# Altium integrated library Lattice SC FPGA.IntLib: 396 symbols (part 2 of 3)
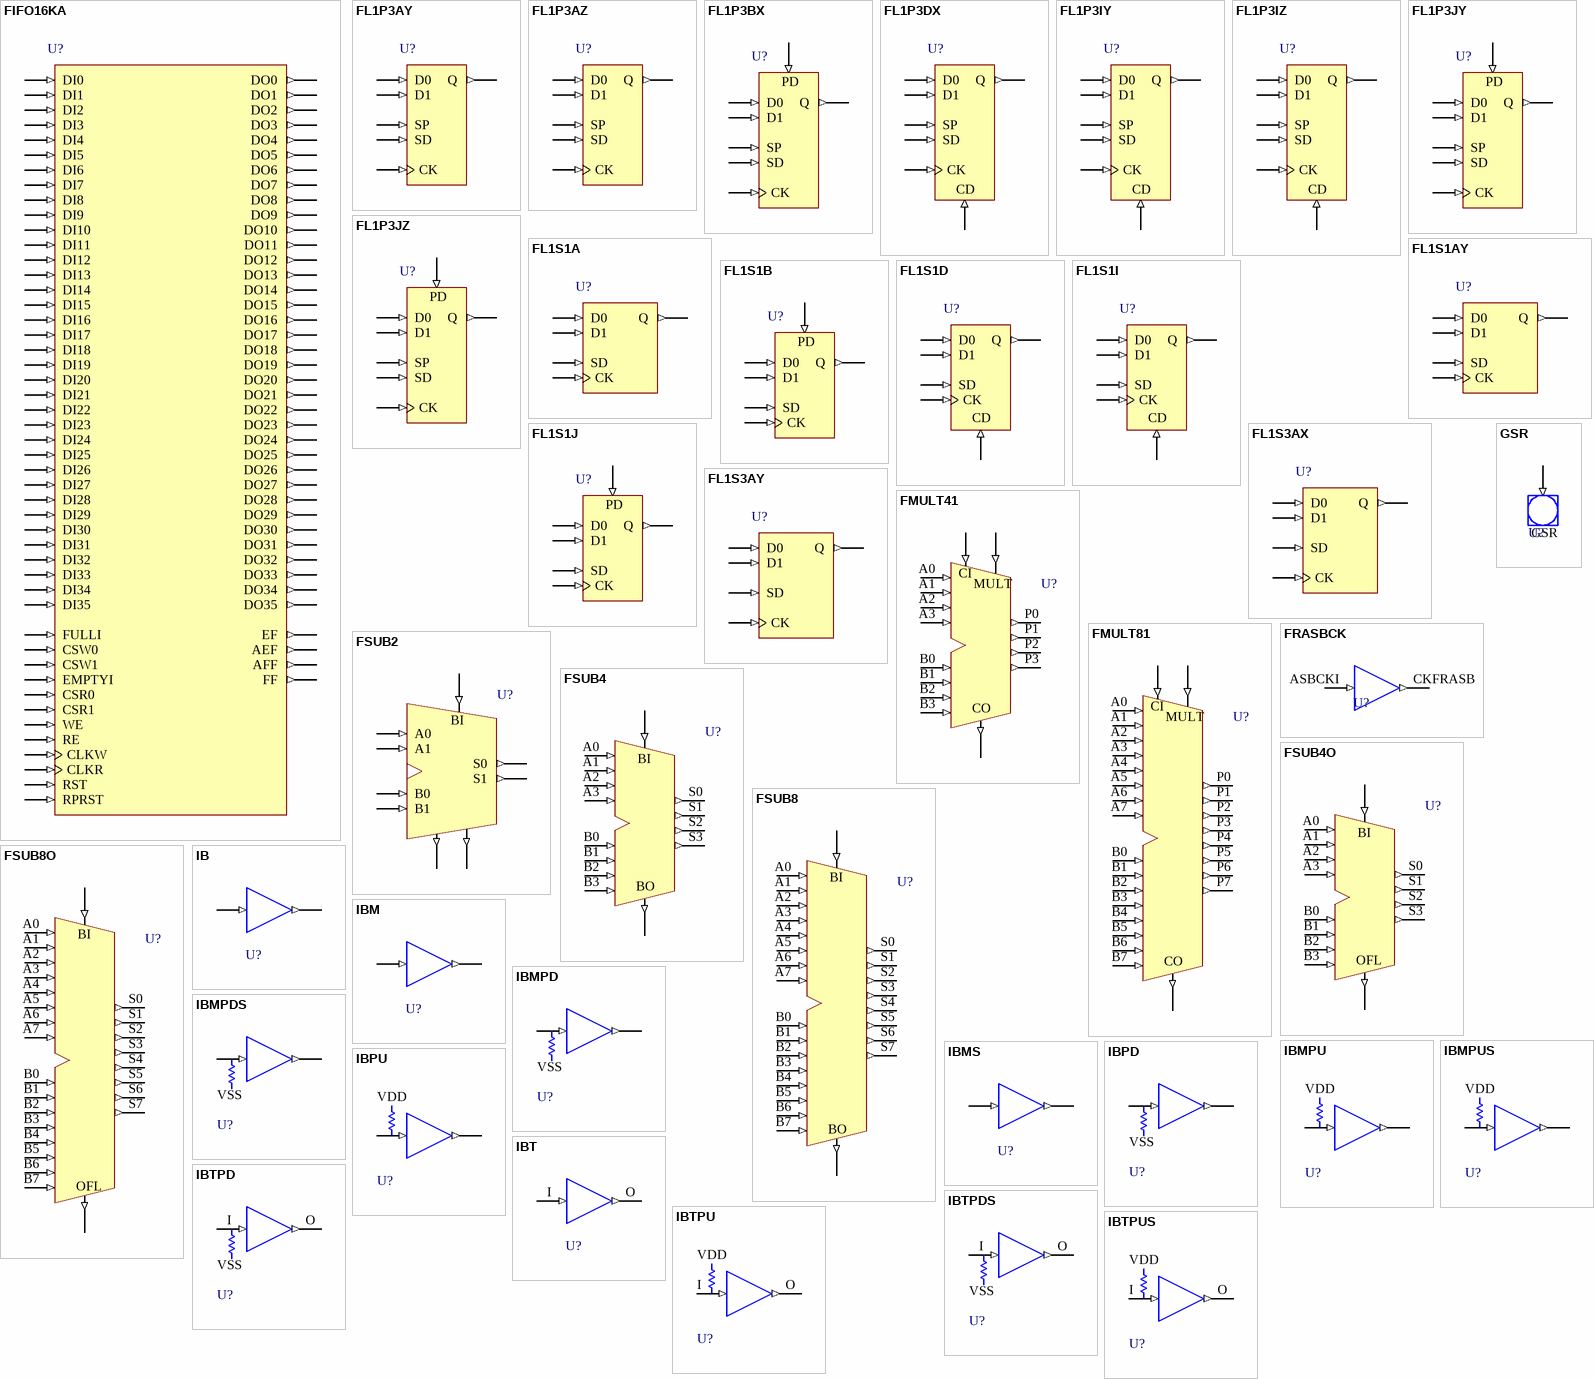
[diagram p11: symbols FIFO16KA to IBTPUS]

## FL1P3DX
designator U?
Positive Edge Triggered D Flip-Flop with 2 Input Data Mux, Positive Level Data Select, Positive Level Asynchronous Clear, and Positive Level Enable; FPGAVendor: Lattice; Published: 4-May-2007; Publisher: Altium Limited; HelpURL: http://www.latticesemi.com/lit/docs/manuals/library.pdf
pins: CD (in), CK (in), D0 (in), D1 (in), Q (out), SD (in), SP (in)

## FL1P3IY
designator U?
Positive Edge Triggered D Flip-Flop with 2 Input Data Mux, Positive Level Data Select, Positive Level Synchronous Clear, and Positive Level Enable (Clear overrides Enable); FPGAVendor: Lattice; Published: 4-May-2007; Publisher: Altium Limited; HelpURL: http://www.latticesemi.com/lit/docs/manuals/library.pdf
pins: CD (in), CK (in), D0 (in), D1 (in), Q (out), SD (in), SP (in)

## FL1P3IZ
designator U?
Positive Edge Triggered D Flip-Flop with 2 Input Data Mux, Positive Level Data Select, Positive Level Synchronous Clear, and Positive Level Enable (Enable overrides Clear); FPGAVendor: Lattice; Published: 4-May-2007; Publisher: Altium Limited; HelpURL: http://www.latticesemi.com/lit/docs/manuals/library.pdf
pins: CD (in), CK (in), D0 (in), D1 (in), Q (out), SD (in), SP (in)

## FL1P3JY
designator U?
Positive Edge Triggered D Flip-Flop with 2 Input Data Mux, Positive Level Data Select, Positive Level Synchronous Preset, and Positive Level Enable (Preset overrides Enable); FPGAVendor: Lattice; Published: 4-May-2007; Publisher: Altium Limited; HelpURL: http://www.latticesemi.com/lit/docs/manuals/library.pdf
pins: CK (in), D0 (in), D1 (in), PD (in), Q (out), SD (in), SP (in)

## FL1P3JZ
designator U?
Positive Edge Triggered D Flip-Flop with 2 Input Data Mux, Positive Level Data Select, Positive Level Synchronous Preset, and Positive Level Enable (Enable overrides Preset); FPGAVendor: Lattice; Published: 4-May-2007; Publisher: Altium Limited; HelpURL: http://www.latticesemi.com/lit/docs/manuals/library.pdf
pins: CK (in), D0 (in), D1 (in), PD (in), Q (out), SD (in), SP (in)

## FL1S1A
designator U?
Positive Level Loadable Latch with Positive Select, GSR Used for Clear; FPGAVendor: Lattice; Published: 4-May-2007; Publisher: Altium Limited; HelpURL: http://www.latticesemi.com/lit/docs/manuals/library.pdf
pins: CK (in), D0 (in), D1 (in), Q (out), SD (in)

## FL1S1AY
designator U?
Positive Level Loadable Latch with Positive Select, GSR Used for Preset; FPGAVendor: Lattice; Published: 4-May-2007; Publisher: Altium Limited; HelpURL: http://www.latticesemi.com/lit/docs/manuals/library.pdf
pins: CK (in), D0 (in), D1 (in), Q (out), SD (in)

## FL1S1B
designator U?
Positive Level Loadable Latch with Positive Level Data Select and Positive Level Asynchronous Preset; FPGAVendor: Lattice; Published: 4-May-2007; Publisher: Altium Limited; HelpURL: http://www.latticesemi.com/lit/docs/manuals/library.pdf
pins: CK (in), D0 (in), D1 (in), PD (in), Q (out), SD (in)

## FL1S1D
designator U?
Positive Level Loadable Latch with Positive Level Data Select and Positive Level Asynchronous Clear; FPGAVendor: Lattice; Published: 4-May-2007; Publisher: Altium Limited; HelpURL: http://www.latticesemi.com/lit/docs/manuals/library.pdf
pins: CD (in), CK (in), D0 (in), D1 (in), Q (out), SD (in)

## FL1S1I
designator U?
Positive Level Loadable Latch with Positive Level Data Select and Positive Level Synchronous Clear; FPGAVendor: Lattice; Published: 4-May-2007; Publisher: Altium Limited; HelpURL: http://www.latticesemi.com/lit/docs/manuals/library.pdf
pins: CD (in), CK (in), D0 (in), D1 (in), Q (out), SD (in)

## FL1S1J
designator U?
Positive Level Loadable Latch with Positive Level Data Select and Positive Level Synchronous Preset; FPGAVendor: Lattice; Published: 4-May-2007; Publisher: Altium Limited; HelpURL: http://www.latticesemi.com/lit/docs/manuals/library.pdf
pins: CK (in), D0 (in), D1 (in), PD (in), Q (out), SD (in)

## FL1S3AX
designator U?
Positive Edge Triggered D Flip-Flop with 2 Input Data Mux, GSR used for Clear; FPGAVendor: Lattice; Published: 4-May-2007; Publisher: Altium Limited; HelpURL: http://www.latticesemi.com/lit/docs/manuals/library.pdf
pins: CK (in), D0 (in), D1 (in), Q (out), SD (in)

## FL1S3AY
designator U?
Positive Edge Triggered D Flip-Flop with 2 Input Data Mux, GSR used for Preset; FPGAVendor: Lattice; Published: 4-May-2007; Publisher: Altium Limited; HelpURL: http://www.latticesemi.com/lit/docs/manuals/library.pdf
pins: CK (in), D0 (in), D1 (in), Q (out), SD (in)

## FMULT41
designator U?
4 X 1 Fast Multiplier; FPGAVendor: Lattice; Published: 4-May-2007; Publisher: Altium Limited; HelpURL: http://www.latticesemi.com/lit/docs/manuals/library.pdf
pins: A0 (in), A1 (in), A2 (in), A3 (in), B0 (in), B1 (in), B2 (in), B3 (in), CI (in), CO (out), MULT (in), P0 (out), P1 (out), P2 (out), P3 (out)

## FMULT81
designator U?
8 X 1 Fast Multiplier; FPGAVendor: Lattice; Published: 4-May-2007; Publisher: Altium Limited; HelpURL: http://www.latticesemi.com/lit/docs/manuals/library.pdf
pins: A0 (in), A1 (in), A2 (in), A3 (in), A4 (in), A5 (in), A6 (in), A7 (in), B0 (in), B1 (in), B2 (in), B3 (in), B4 (in), B5 (in), B6 (in), B7 (in), CI (in), CO (out), MULT (in), P0 (out), P1 (out), P2 (out), P3 (out), P4 (out), P5 (out), P6 (out), P7 (out)

## FRASBCK
designator U?
Buffer used to route clocks rom ASB to FPGA along clock spine; FPGAVendor: Lattice; Published: 4-May-2007; Publisher: Altium Limited; HelpURL: http://www.latticesemi.com/lit/docs/manuals/library.pdf
pins: ASBCKI (in), CKFRASB (out)

## FSUB2
designator U?
2 Bit Fast Subtracter (two’s complement); FPGAVendor: Lattice; Published: 4-May-2007; Publisher: Altium Limited; HelpURL: http://www.latticesemi.com/lit/docs/manuals/library.pdf
pins: A0 (in), A1 (in), B0 (in), B1 (in), BI (in), BOUT0 (out), BOUT1 (out), S0 (out), S1 (out)

## FSUB4
designator U?
4 Bit Fast Subtracter (two’s complement); FPGAVendor: Lattice; Published: 4-May-2007; Publisher: Altium Limited; HelpURL: http://www.latticesemi.com/lit/docs/manuals/library.pdf
pins: A0 (in), A1 (in), A2 (in), A3 (in), B0 (in), B1 (in), B2 (in), B3 (in), BI (in), BO (out), S0 (out), S1 (out), S2 (out), S3 (out)

## FSUB4O
designator U?
4 Bit Fast Subtracter (two’s complement) with Overflow; FPGAVendor: Lattice; Published: 4-May-2007; Publisher: Altium Limited; HelpURL: http://www.latticesemi.com/lit/docs/manuals/library.pdf
pins: A0 (in), A1 (in), A2 (in), A3 (in), B0 (in), B1 (in), B2 (in), B3 (in), BI (in), OFL (out), S0 (out), S1 (out), S2 (out), S3 (out)

## FSUB8
designator U?
8 Bit Fast Subtracter (two’s complement); FPGAVendor: Lattice; Published: 4-May-2007; Publisher: Altium Limited; HelpURL: http://www.latticesemi.com/lit/docs/manuals/library.pdf
pins: A0 (in), A1 (in), A2 (in), A3 (in), A4 (in), A5 (in), A6 (in), A7 (in), B0 (in), B1 (in), B2 (in), B3 (in), B4 (in), B5 (in), B6 (in), B7 (in), BI (in), BO (out), S0 (out), S1 (out), S2 (out), S3 (out), S4 (out), S5 (out), S6 (out), S7 (out)

## FSUB8O
designator U?
8 Bit Fast Subtracter (two’s complement) with Overflow; FPGAVendor: Lattice; Published: 4-May-2007; Publisher: Altium Limited; HelpURL: http://www.latticesemi.com/lit/docs/manuals/library.pdf
pins: A0 (in), A1 (in), A2 (in), A3 (in), A4 (in), A5 (in), A6 (in), A7 (in), B0 (in), B1 (in), B2 (in), B3 (in), B4 (in), B5 (in), B6 (in), B7 (in), BI (in), OFL (out), S0 (out), S1 (out), S2 (out), S3 (out), S4 (out), S5 (out), S6 (out), S7 (out)

## GSR
designator U?
Global Set/Reset Interface; FPGAVendor: Lattice; Published: 4-May-2007; Publisher: Altium Limited; HelpURL: http://www.latticesemi.com/lit/docs/manuals/library.pdf
pins: GSR (in)

## IB
designator U?
Input Buffer; FPGAVendor: Lattice; Published: 4-May-2007; Publisher: Altium Limited; HelpURL: http://www.latticesemi.com/lit/docs/manuals/library.pdf
pins: I (in), O (out)

## IBM
designator U?
CMOS Input Buffer; FPGAVendor: Lattice; Published: 4-May-2007; Publisher: Altium Limited; HelpURL: http://www.latticesemi.com/lit/docs/manuals/library.pdf
pins: I (in), O (out)

## IBMPD
designator U?
CMOS Input Buffer with Pull-down; FPGAVendor: Lattice; Published: 4-May-2007; Publisher: Altium Limited; HelpURL: http://www.latticesemi.com/lit/docs/manuals/library.pdf
pins: I (in), O (out)
text: VSS

## IBMPDS
designator U?
CMOS Input Buffer with Pull-down and Delay; FPGAVendor: Lattice; Published: 4-May-2007; Publisher: Altium Limited; HelpURL: http://www.latticesemi.com/lit/docs/manuals/library.pdf
pins: I (in), O (out)
text: VSS

## IBMPU
designator U?
CMOS Input Buffer with Pull-up; FPGAVendor: Lattice; Published: 4-May-2007; Publisher: Altium Limited; HelpURL: http://www.latticesemi.com/lit/docs/manuals/library.pdf
pins: I (in), O (out)
text: VDD

## IBMPUS
designator U?
CMOS Input Buffer with Pull-up and Delay; FPGAVendor: Lattice; Published: 4-May-2007; Publisher: Altium Limited; HelpURL: http://www.latticesemi.com/lit/docs/manuals/library.pdf
pins: I (in), O (out)
text: VDD

## IBMS
designator U?
CMOS Input Buffer with Delay; FPGAVendor: Lattice; Published: 4-May-2007; Publisher: Altium Limited; HelpURL: http://www.latticesemi.com/lit/docs/manuals/library.pdf
pins: I (in), O (out)

## IBPD
designator U?
Input Buffer with Pull-down; FPGAVendor: Lattice; Published: 4-May-2007; Publisher: Altium Limited; HelpURL: http://www.latticesemi.com/lit/docs/manuals/library.pdf
pins: I (in), O (out)
text: VSS

## IBPU
designator U?
Input Buffer with Pull-up; FPGAVendor: Lattice; Published: 4-May-2007; Publisher: Altium Limited; HelpURL: http://www.latticesemi.com/lit/docs/manuals/library.pdf
pins: I (in), O (out)
text: VDD

## IBT
designator U?
TTL Input Buffer; FPGAVendor: Lattice; Published: 4-May-2007; Publisher: Altium Limited; HelpURL: http://www.latticesemi.com/lit/docs/manuals/library.pdf
pins: I (in), O (out)

## IBTPD
designator U?
TTL Input Buffer with Pull-down; FPGAVendor: Lattice; Published: 4-May-2007; Publisher: Altium Limited; HelpURL: http://www.latticesemi.com/lit/docs/manuals/library.pdf
pins: I (in), O (out)
text: VSS

## IBTPDS
designator U?
TTL Input Buffer with Pull-down and Delay; FPGAVendor: Lattice; Published: 4-May-2007; Publisher: Altium Limited; HelpURL: http://www.latticesemi.com/lit/docs/manuals/library.pdf
pins: I (in), O (out)
text: VSS

## IBTPU
designator U?
TTL Input Buffer with Pull-up; FPGAVendor: Lattice; Published: 4-May-2007; Publisher: Altium Limited; HelpURL: http://www.latticesemi.com/lit/docs/manuals/library.pdf
pins: I (in), O (out)
text: VDD

## IBTPUS
designator U?
TTL Input Buffer with Pull-up and Delay; FPGAVendor: Lattice; Published: 4-May-2007; Publisher: Altium Limited; HelpURL: http://www.latticesemi.com/lit/docs/manuals/library.pdf
pins: I (in), O (out)
text: VDD

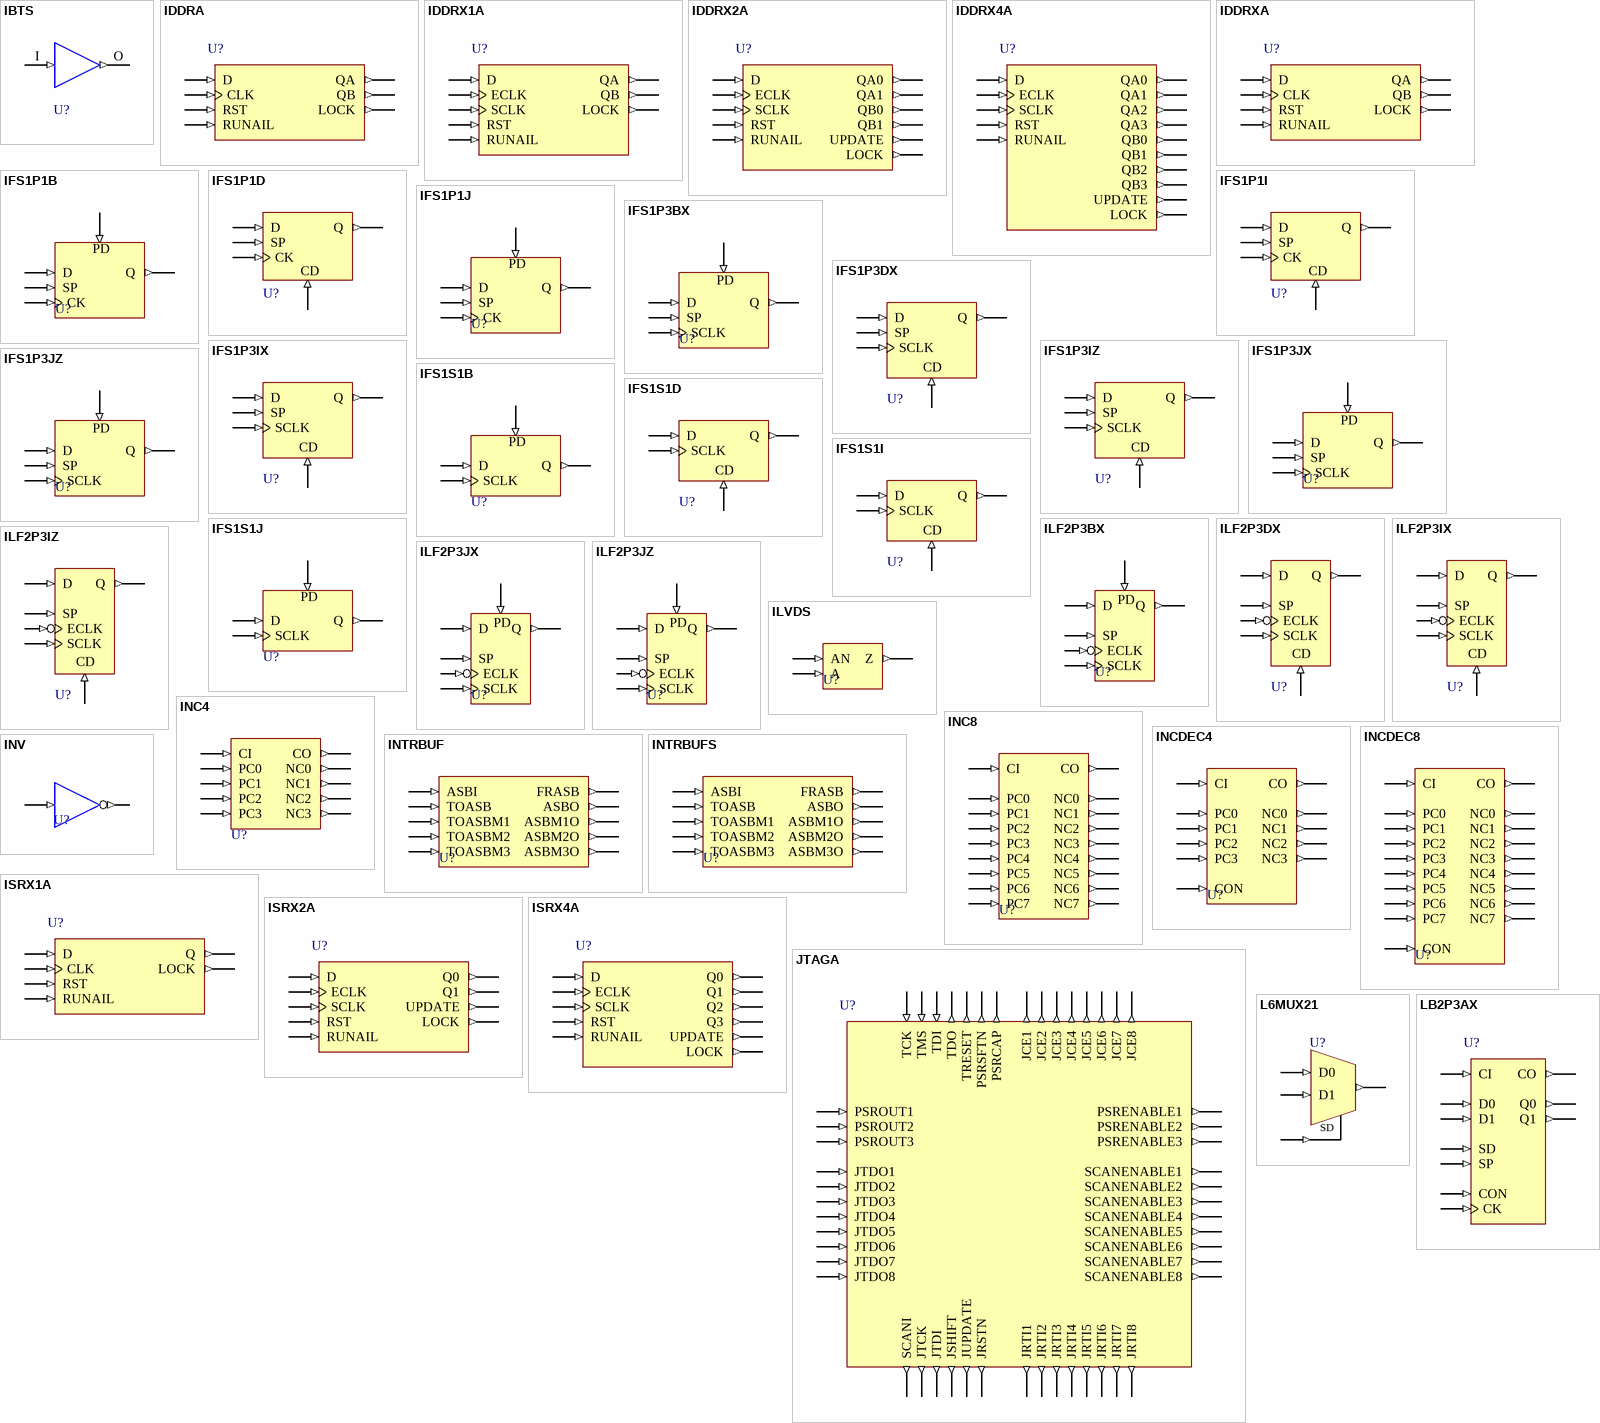
[diagram p5: symbols IBTS to LB2P3AX]

## IBTS
designator U?
TTL Input Buffer with Delay; FPGAVendor: Lattice; Published: 4-May-2007; Publisher: Altium Limited; HelpURL: http://www.latticesemi.com/lit/docs/manuals/library.pdf
pins: I (in), O (out)

## IDDRA
designator U?
Input DDR; FPGAVendor: Lattice; Published: 4-May-2007; Publisher: Altium Limited; HelpURL: http://www.latticesemi.com/lit/docs/manuals/library.pdf
pins: CLK (in), D (in), LOCK (out), QA (out), QB (out), RST (in), RUNAIL (in)

## IDDRX1A
designator U?
Input DDR; FPGAVendor: Lattice; Published: 4-May-2007; Publisher: Altium Limited; HelpURL: http://www.latticesemi.com/lit/docs/manuals/library.pdf
pins: D (in), ECLK (in), LOCK (out), QA (out), QB (out), RST (in), RUNAIL (in), SCLK (in)

## IDDRX2A
designator U?
Input DDR; FPGAVendor: Lattice; Published: 4-May-2007; Publisher: Altium Limited; HelpURL: http://www.latticesemi.com/lit/docs/manuals/library.pdf
pins: D (in), ECLK (in), LOCK (out), QA0 (out), QA1 (out), QB0 (out), QB1 (out), RST (in), RUNAIL (in), SCLK (in), UPDATE (out)

## IDDRX4A
designator U?
Input DDR; FPGAVendor: Lattice; Published: 4-May-2007; Publisher: Altium Limited; HelpURL: http://www.latticesemi.com/lit/docs/manuals/library.pdf
pins: D (in), ECLK (in), LOCK (out), QA0 (out), QA1 (out), QA2 (out), QA3 (out), QB0 (out), QB1 (out), QB2 (out), QB3 (out), RST (in), RUNAIL (in), SCLK (in), UPDATE (out)

## IDDRXA
designator U?
Input DDR; FPGAVendor: Lattice; Published: 4-May-2007; Publisher: Altium Limited; HelpURL: http://www.latticesemi.com/lit/docs/manuals/library.pdf
pins: CLK (in), D (in), LOCK (out), QA (out), QB (out), RST (in), RUNAIL (in)

## IFS1P1B
designator U?
Positive Level Latch with Positive Level Enable and Positve Level Asynchronous Preset; FPGAVendor: Lattice; Published: 4-May-2007; Publisher: Altium Limited; HelpURL: http://www.latticesemi.com/lit/docs/manuals/library.pdf
pins: CK (in), D (in), PD (in), Q (out), SP (in)

## IFS1P1D
designator U?
Positive Level Latch with Positive Level Enable and Positive Asynchronous Clear; FPGAVendor: Lattice; Published: 4-May-2007; Publisher: Altium Limited; HelpURL: http://www.latticesemi.com/lit/docs/manuals/library.pdf
pins: CD (in), CK (in), D (in), Q (out), SP (in)

## IFS1P1I
designator U?
Positive Level Latch with Positive Level Enable and Positive Asynchronous Clear; FPGAVendor: Lattice; Published: 4-May-2007; Publisher: Altium Limited; HelpURL: http://www.latticesemi.com/lit/docs/manuals/library.pdf
pins: CD (in), CK (in), D (in), Q (out), SP (in)

## IFS1P1J
designator U?
Positive Level Latch with Positive Level Enable and Positive Level Asynchronous Preset; FPGAVendor: Lattice; Published: 4-May-2007; Publisher: Altium Limited; HelpURL: http://www.latticesemi.com/lit/docs/manuals/library.pdf
pins: CK (in), D (in), PD (in), Q (out), SP (in)

## IFS1P3BX
designator U?
Positive Edge Triggered D Flip-Flop with Positive Level Enable, Positive Level Asynchronous Preset, and System Clock (used in input PIC area only); FPGAVendor: Lattice; Published: 4-May-2007; Publisher: Altium Limited; HelpURL: http://www.latticesemi.com/lit/docs/manuals/library.pdf
pins: D (in), PD (in), Q (out), SCLK (in), SP (in)

## IFS1P3DX
designator U?
Positive Edge Triggered D Flip-Flop with Positive Level Enable, Positive Level Asynchronous Clear, and System Clock (used in input PIC area only); FPGAVendor: Lattice; Published: 4-May-2007; Publisher: Altium Limited; HelpURL: http://www.latticesemi.com/lit/docs/manuals/library.pdf
pins: CD (in), D (in), Q (out), SCLK (in), SP (in)

## IFS1P3IX
designator U?
Positive Edge Triggered D Flip-Flop with Positive Level Synchronous Clear, Positive Level Enable, and System Clock (Clear overrides Enable) (used in input PIC area only); FPGAVendor: Lattice; Published: 4-May-2007; Publisher: Altium Limited; HelpURL: http://www.latticesemi.com/lit/docs/manuals/library.pdf
pins: CD (in), D (in), Q (out), SCLK (in), SP (in)

## IFS1P3IZ
designator U?
Positive Edge Triggered D Flip-Flop with Positive Level Enable, Positive Level Synchronous Clear, and System Clock (used in input PIC area only); FPGAVendor: Lattice; Published: 4-May-2007; Publisher: Altium Limited; HelpURL: http://www.latticesemi.com/lit/docs/manuals/library.pdf
pins: CD (in), D (in), Q (out), SCLK (in), SP (in)

## IFS1P3JX
designator U?
Positive Edge Triggered D Flip-Flop with Positive Level Synchronous Preset, Positive Level Enable, and System Clock (Preset overrides Enable) (used in input PIC area only); FPGAVendor: Lattice; Published: 4-May-2007; Publisher: Altium Limited; HelpURL: http://www.latticesemi.com/lit/docs/manuals/library.pdf
pins: D (in), PD (in), Q (out), SCLK (in), SP (in)

## IFS1P3JZ
designator U?
Positive Edge Triggered D Flip-Flop with Positive Level Enable, Positive Level Synchronous Preset, and System Clock (used in input PIC area only); FPGAVendor: Lattice; Published: 4-May-2007; Publisher: Altium Limited; HelpURL: http://www.latticesemi.com/lit/docs/manuals/library.pdf
pins: D (in), PD (in), Q (out), SCLK (in), SP (in)

## IFS1S1B
designator U?
Positive Level Data Latch with Positive Level Asynchronous Preset and System Clock (used in input PIC area only); FPGAVendor: Lattice; Published: 4-May-2007; Publisher: Altium Limited; HelpURL: http://www.latticesemi.com/lit/docs/manuals/library.pdf
pins: D (in), PD (in), Q (out), SCLK (in)

## IFS1S1D
designator U?
Positive Level Data Latch with Positive Level Asynchronous Clear and System Clock (used in input PIC area only); FPGAVendor: Lattice; Published: 4-May-2007; Publisher: Altium Limited; HelpURL: http://www.latticesemi.com/lit/docs/manuals/library.pdf
pins: CD (in), D (in), Q (out), SCLK (in)

## IFS1S1I
designator U?
Positive Level Data Latch with Positive Level Synchronous Clear and System Clock (used in input PIC area only); FPGAVendor: Lattice; Published: 4-May-2007; Publisher: Altium Limited; HelpURL: http://www.latticesemi.com/lit/docs/manuals/library.pdf
pins: CD (in), D (in), Q (out), SCLK (in)

## IFS1S1J
designator U?
Positive Level Data Latch with Positive Level Synchronous Preset and System Clock (used in input PIC area only); FPGAVendor: Lattice; Published: 4-May-2007; Publisher: Altium Limited; HelpURL: http://www.latticesemi.com/lit/docs/manuals/library.pdf
pins: D (in), PD (in), Q (out), SCLK (in)

## ILF2P3BX
designator U?
Negative Level Express Clocked (ECLK) Latch, Feeding Positive Edge Triggered System Clocked (SCLK) Flip-Flop, and Positive Level Asynchronous Preset (used in input PIC area only); FPGAVendor: Lattice; Published: 4-May-2007; Publisher: Altium Limited; HelpURL: http://www.latticesemi.com/lit/docs/manuals/library.pdf
pins: D (in), ECLK (in), PD (in), Q (out), SCLK (in), SP (in)

## ILF2P3DX
designator U?
Negative Level Express Clocked (ECLK) Latch, Feeding Positive Edge Triggered System Clocked (SCLK) Flip-Flop, and Positive Level Asynchronous Clear (used in input PIC area only); FPGAVendor: Lattice; Published: 4-May-2007; Publisher: Altium Limited; HelpURL: http://www.latticesemi.com/lit/docs/manuals/library.pdf
pins: CD (in), D (in), ECLK (in), Q (out), SCLK (in), SP (in)

## ILF2P3IX
designator U?
Negative Level Express Clocked (ECLK) Latch, Feeding Positive Edge Triggered System Clocked (SCLK) Flip-Flop, with Positive Level Synchronous Clear and Positive Level Enable (Clear overrides Enable) (used in input PIC area only); FPGAVendor: Lattice; Published: 4-May-2007; Publisher: Altium Limited; HelpURL: http://www.latticesemi.com/lit/docs/manuals/library.pdf
pins: CD (in), D (in), ECLK (in), Q (out), SCLK (in), SP (in)

## ILF2P3IZ
designator U?
Negative Level Express Clocked (ECLK) Latch, Feeding Positive Edge Triggered System Clocked (SCLK) Flip-Flop, with Positive Level Synchronous Clear and Positive Level Enable (Enable overrides Clear) (used in input PIC area only); FPGAVendor: Lattice; Published: 4-May-2007; Publisher: Altium Limited; HelpURL: http://www.latticesemi.com/lit/docs/manuals/library.pdf
pins: CD (in), D (in), ECLK (in), Q (out), SCLK (in), SP (in)

## ILF2P3JX
designator U?
Negative Level Express Clocked (ECLK) Latch, Feeding Positive Edge Triggered System Clocked (SCLK) Flip-Flop, and Positive Level Synchronous Preset (Preset overrides Enable) (used in input PIC area only); FPGAVendor: Lattice; Published: 4-May-2007; Publisher: Altium Limited; HelpURL: http://www.latticesemi.com/lit/docs/manuals/library.pdf
pins: D (in), ECLK (in), PD (in), Q (out), SCLK (in), SP (in)

## ILF2P3JZ
designator U?
Negative Level Express Clocked (ECLK) Latch, Feeding Positive Edge Triggered System Clocked (SCLK) Flip-Flop, and Positive Level Synchronous Preset (used in input PIC area only); FPGAVendor: Lattice; Published: 4-May-2007; Publisher: Altium Limited; HelpURL: http://www.latticesemi.com/lit/docs/manuals/library.pdf
pins: D (in), ECLK (in), PD (in), Q (out), SCLK (in), SP (in)

## ILVDS
designator U?
LVDS Input Buffer; FPGAVendor: Lattice; Published: 4-May-2007; Publisher: Altium Limited; HelpURL: http://www.latticesemi.com/lit/docs/manuals/library.pdf
pins: A (in), AN (in), Z (out)

## INC4
designator U?
Combinational Logic for 4 Bit Up-Counter using Look-Up Table; FPGAVendor: Lattice; Published: 4-May-2007; Publisher: Altium Limited; HelpURL: http://www.latticesemi.com/lit/docs/manuals/library.pdf
pins: CI (in), CO (out), NC0 (out), NC1 (out), NC2 (out), NC3 (out), PC0 (in), PC1 (in), PC2 (in), PC3 (in)

## INC8
designator U?
Combinational Logic for 8 Bit Up-Counter using Look-Up Table; FPGAVendor: Lattice; Published: 4-May-2007; Publisher: Altium Limited; HelpURL: http://www.latticesemi.com/lit/docs/manuals/library.pdf
pins: CI (in), CO (out), NC0 (out), NC1 (out), NC2 (out), NC3 (out), NC4 (out), NC5 (out), NC6 (out), NC7 (out), PC0 (in), PC1 (in), PC2 (in), PC3 (in), PC4 (in), PC5 (in), PC6 (in), PC7 (in)

## INCDEC4
designator U?
Combinational Logic for 4 Bit Bidirectional Counter using Look-Up Table; FPGAVendor: Lattice; Published: 4-May-2007; Publisher: Altium Limited; HelpURL: http://www.latticesemi.com/lit/docs/manuals/library.pdf
pins: CI (in), CO (out), CON (in), NC0 (out), NC1 (out), NC2 (out), NC3 (out), PC0 (in), PC1 (in), PC2 (in), PC3 (in)

## INCDEC8
designator U?
Combinational Logic for 8 Bit Bidirectional Counter using Look-Up Table; FPGAVendor: Lattice; Published: 4-May-2007; Publisher: Altium Limited; HelpURL: http://www.latticesemi.com/lit/docs/manuals/library.pdf
pins: CI (in), CO (out), CON (in), NC0 (out), NC1 (out), NC2 (out), NC3 (out), NC4 (out), NC5 (out), NC6 (out), NC7 (out), PC0 (in), PC1 (in), PC2 (in), PC3 (in), PC4 (in), PC5 (in), PC6 (in), PC7 (in)

## INTRBUF
designator U?
ASB/FPGA interface cell that gets mapped to the bottom row of PICs. Unconnected inputs should be pulled down.; FPGAVendor: Lattice; Published: 4-May-2007; Publisher: Altium Limited; HelpURL: http://www.latticesemi.com/lit/docs/manuals/library.pdf
pins: ASBI (in), ASBM1O (out), ASBM2O (out), ASBM3O (out), ASBO (out), FRASB (out), TOASB (in), TOASBM1 (in), TOASBM2 (in), TOASBM3 (in)

## INTRBUFS
designator U?
ASB/FPGA interface cell that gets mapped to the bottom row of PICs. Delayed input buffer, unconnected inputs should be pulled down.; FPGAVendor: Lattice; Published: 4-May-2007; Publisher: Altium Limited; HelpURL: http://www.latticesemi.com/lit/docs/manuals/library.pdf
pins: ASBI (in), ASBM1O (out), ASBM2O (out), ASBM3O (out), ASBO (out), FRASB (out), TOASB (in), TOASBM1 (in), TOASBM2 (in), TOASBM3 (in)

## INV
designator U?
Inverter; FPGAVendor: Lattice; Published: 4-May-2007; Publisher: Altium Limited; HelpURL: http://www.latticesemi.com/lit/docs/manuals/library.pdf
pins: A (in), Z (out)

## ISRX1A
designator U?
Input 1-Bit Shift Register; FPGAVendor: Lattice; Published: 4-May-2007; Publisher: Altium Limited; HelpURL: http://www.latticesemi.com/lit/docs/manuals/library.pdf
pins: CLK (in), D (in), LOCK (out), Q (out), RST (in), RUNAIL (in)

## ISRX2A
designator U?
Input 2-Bit Shift Register; FPGAVendor: Lattice; Published: 4-May-2007; Publisher: Altium Limited; HelpURL: http://www.latticesemi.com/lit/docs/manuals/library.pdf
pins: D (in), ECLK (in), LOCK (out), Q0 (out), Q1 (out), RST (in), RUNAIL (in), SCLK (in), UPDATE (out)

## ISRX4A
designator U?
Input 4-Bit Shift Register; FPGAVendor: Lattice; Published: 4-May-2007; Publisher: Altium Limited; HelpURL: http://www.latticesemi.com/lit/docs/manuals/library.pdf
pins: D (in), ECLK (in), LOCK (out), Q0 (out), Q1 (out), Q2 (out), Q3 (out), RST (in), RUNAIL (in), SCLK (in), UPDATE (out)

## JTAGA
designator U?
JTAG - Logic Control Circuit; FPGAVendor: Lattice; Published: 4-May-2007; Publisher: Altium Limited; HelpURL: http://www.latticesemi.com/lit/docs/manuals/library.pdf
pins: JCE1 (out), JCE2 (out), JCE3 (out), JCE4 (out), JCE5 (out), JCE6 (out), JCE7 (out), JCE8 (out), JRSTN (out), JRTI1 (out), JRTI2 (out), JRTI3 (out), JRTI4 (out), JRTI5 (out), JRTI6 (out), JRTI7 (out), JRTI8 (out), JSHIFT (out), JTCK (out), JTDI (out), JTDO1 (in), JTDO2 (in), JTDO3 (in), JTDO4 (in), JTDO5 (in), JTDO6 (in), JTDO7 (in), JTDO8 (in), JUPDATE (out), PSRCAP (out), PSRENABLE1 (out), PSRENABLE2 (out), PSRENABLE3 (out), PSROUT1 (in), PSROUT2 (in), PSROUT3 (in), PSRSFTN (out), SCANENABLE1 (out), SCANENABLE2 (out), SCANENABLE3 (out), SCANENABLE4 (out), SCANENABLE5 (out), SCANENABLE6 (out), SCANENABLE7 (out), SCANENABLE8 (out), SCANI (out), TCK (in), TDI (in), TDO (out), TMS (in), TRESET (out)

## L6MUX21
designator U?
LUT-6 2 to 1 Multiplexer; FPGAVendor: Lattice; Published: 4-May-2007; Publisher: Altium Limited; HelpURL: http://www.latticesemi.com/lit/docs/manuals/library.pdf
pins: D0 (in), D1 (in), SD (in), Z (out)

## LB2P3AX
designator U?
2 Bit Positive Edge Triggered Loadable Bidirectional Counter with Positive Clock Enable, GSR Used for Clear; FPGAVendor: Lattice; Published: 4-May-2007; Publisher: Altium Limited; HelpURL: http://www.latticesemi.com/lit/docs/manuals/library.pdf
pins: CI (in), CK (in), CO (out), CON (in), D0 (in), D1 (in), Q0 (out), Q1 (out), SD (in), SP (in)

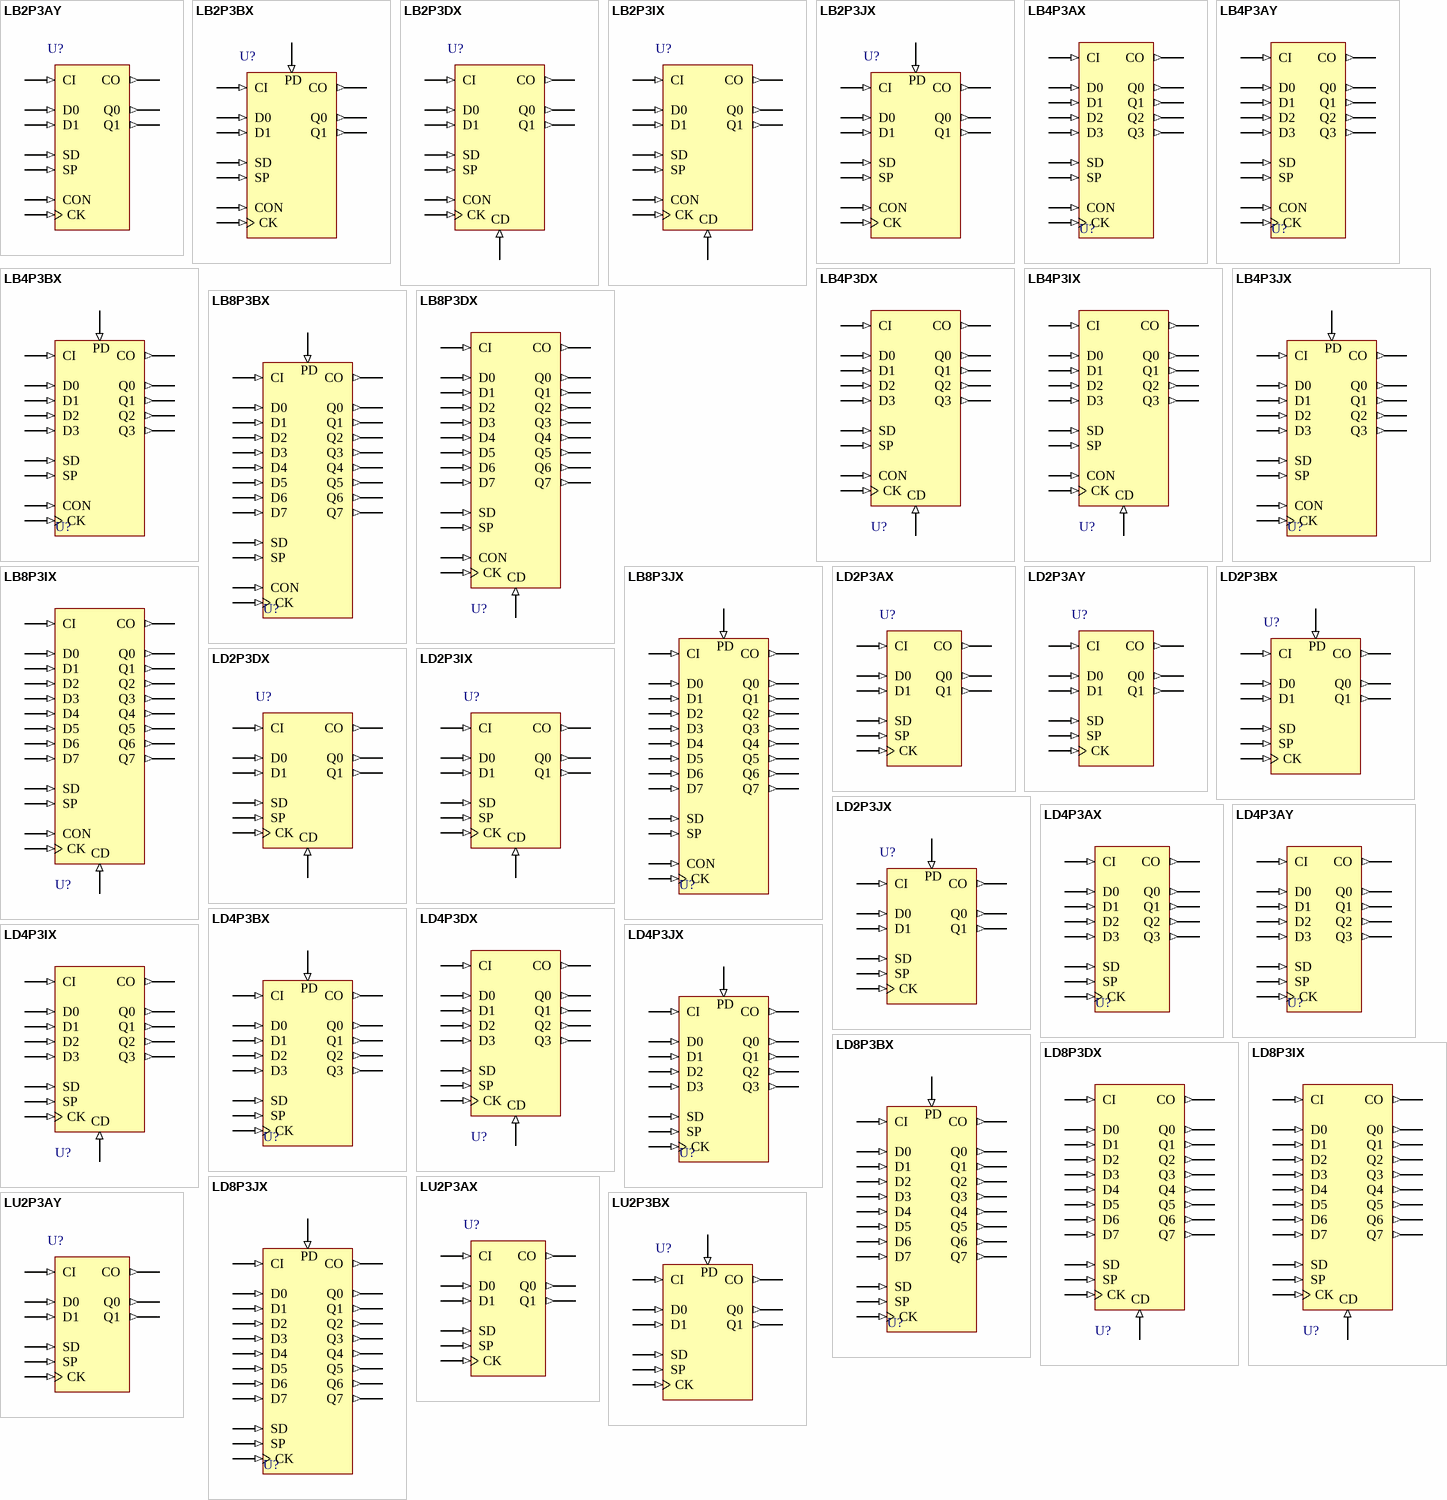
[diagram p6: symbols LB2P3AY to LU2P3BX]

## LB2P3AY
designator U?
2 Bit Positive Edge Triggered Loadable Bidirectional Counter with Positive Clock Enable, GSR Used for Preset; FPGAVendor: Lattice; Published: 4-May-2007; Publisher: Altium Limited; HelpURL: http://www.latticesemi.com/lit/docs/manuals/library.pdf
pins: CI (in), CK (in), CO (out), CON (in), D0 (in), D1 (in), Q0 (out), Q1 (out), SD (in), SP (in)

## LB2P3BX
designator U?
2 Bit Positive Edge Triggered Loadable Bidirectional Counter with Positive Clock Enable and Positive Level Asynchronous Preset; FPGAVendor: Lattice; Published: 4-May-2007; Publisher: Altium Limited; HelpURL: http://www.latticesemi.com/lit/docs/manuals/library.pdf
pins: CI (in), CK (in), CO (out), CON (in), D0 (in), D1 (in), PD (in), Q0 (out), Q1 (out), SD (in), SP (in)

## LB2P3DX
designator U?
2 Bit Positive Edge Triggered Loadable Bidirectional Counter with Positive Clock Enable and Positive Level Asynchronous Clear; FPGAVendor: Lattice; Published: 4-May-2007; Publisher: Altium Limited; HelpURL: http://www.latticesemi.com/lit/docs/manuals/library.pdf
pins: CD (in), CI (in), CK (in), CO (out), CON (in), D0 (in), D1 (in), Q0 (out), Q1 (out), SD (in), SP (in)

## LB2P3IX
designator U?
2 Bit Positive Edge Triggered Loadable Bidirectional Counter with Positive Clock Enable and Positive Level Synchronous Clear (Clear overrides Enable); FPGAVendor: Lattice; Published: 4-May-2007; Publisher: Altium Limited; HelpURL: http://www.latticesemi.com/lit/docs/manuals/library.pdf
pins: CD (in), CI (in), CK (in), CO (out), CON (in), D0 (in), D1 (in), Q0 (out), Q1 (out), SD (in), SP (in)

## LB2P3JX
designator U?
2 Bit Positive Edge Triggered Loadable Bidirectional Counter with Positive Clock Enable and Positive Level Synchronous Preset (Preset overrides Enable); FPGAVendor: Lattice; Published: 4-May-2007; Publisher: Altium Limited; HelpURL: http://www.latticesemi.com/lit/docs/manuals/library.pdf
pins: CI (in), CK (in), CO (out), CON (in), D0 (in), D1 (in), PD (in), Q0 (out), Q1 (out), SD (in), SP (in)

## LB4P3AX
designator U?
4 Bit Positive Edge Triggered Loadable Bidirectional Counter with Positive Clock Enable, GSR Used for Clear; FPGAVendor: Lattice; Published: 4-May-2007; Publisher: Altium Limited; HelpURL: http://www.latticesemi.com/lit/docs/manuals/library.pdf
pins: CI (in), CK (in), CO (out), CON (in), D0 (in), D1 (in), D2 (in), D3 (in), Q0 (out), Q1 (out), Q2 (out), Q3 (out), SD (in), SP (in)

## LB4P3AY
designator U?
4 Bit Positive Edge Triggered Loadable Bidirectional Counter with Positive Clock Enable, GSR Used for Preset; FPGAVendor: Lattice; Published: 4-May-2007; Publisher: Altium Limited; HelpURL: http://www.latticesemi.com/lit/docs/manuals/library.pdf
pins: CI (in), CK (in), CO (out), CON (in), D0 (in), D1 (in), D2 (in), D3 (in), Q0 (out), Q1 (out), Q2 (out), Q3 (out), SD (in), SP (in)

## LB4P3BX
designator U?
4 Bit Positive Edge Triggered Loadable Bidirectional Counter with Positive Clock Enable and Positive Level Asynchronous Preset; FPGAVendor: Lattice; Published: 4-May-2007; Publisher: Altium Limited; HelpURL: http://www.latticesemi.com/lit/docs/manuals/library.pdf
pins: CI (in), CK (in), CO (out), CON (in), D0 (in), D1 (in), D2 (in), D3 (in), PD (in), Q0 (out), Q1 (out), Q2 (out), Q3 (out), SD (in), SP (in)

## LB4P3DX
designator U?
4 Bit Positive Edge Triggered Loadable Bidirectional Counter with Positive Clock Enable and Positive Level Asynchronous Clear; FPGAVendor: Lattice; Published: 4-May-2007; Publisher: Altium Limited; HelpURL: http://www.latticesemi.com/lit/docs/manuals/library.pdf
pins: CD (in), CI (in), CK (in), CO (out), CON (in), D0 (in), D1 (in), D2 (in), D3 (in), Q0 (out), Q1 (out), Q2 (out), Q3 (out), SD (in), SP (in)

## LB4P3IX
designator U?
4 Bit Positive Edge Triggered Loadable Bidirectional Counter with Positive Clock Enable and Positive Level Synchronous Clear (Clear overrides Enable); FPGAVendor: Lattice; Published: 4-May-2007; Publisher: Altium Limited; HelpURL: http://www.latticesemi.com/lit/docs/manuals/library.pdf
pins: CD (in), CI (in), CK (in), CO (out), CON (in), D0 (in), D1 (in), D2 (in), D3 (in), Q0 (out), Q1 (out), Q2 (out), Q3 (out), SD (in), SP (in)

## LB4P3JX
designator U?
4 Bit Positive Edge Triggered Loadable Bidirectional Counter with Positive Clock Enable and Positive Level Synchronous Preset (Preset overrides Enable); FPGAVendor: Lattice; Published: 4-May-2007; Publisher: Altium Limited; HelpURL: http://www.latticesemi.com/lit/docs/manuals/library.pdf
pins: CI (in), CK (in), CO (out), CON (in), D0 (in), D1 (in), D2 (in), D3 (in), PD (in), Q0 (out), Q1 (out), Q2 (out), Q3 (out), SD (in), SP (in)

## LB8P3BX
designator U?
8 Bit Positive Edge Triggered Loadable Bidirectional Counter with Positive Clock Enable and Positive Level Asynchronous Preset; FPGAVendor: Lattice; Published: 4-May-2007; Publisher: Altium Limited; HelpURL: http://www.latticesemi.com/lit/docs/manuals/library.pdf
pins: CI (in), CK (in), CO (out), CON (in), D0 (in), D1 (in), D2 (in), D3 (in), D4 (in), D5 (in), D6 (in), D7 (in), PD (in), Q0 (out), Q1 (out), Q2 (out), Q3 (out), Q4 (out), Q5 (out), Q6 (out), Q7 (out), SD (in), SP (in)

## LB8P3DX
designator U?
8 Bit Positive Edge Triggered Loadable Bidirectional Counter with Positive Clock Enable and Positive Level Asynchronous Clear; FPGAVendor: Lattice; Published: 4-May-2007; Publisher: Altium Limited; HelpURL: http://www.latticesemi.com/lit/docs/manuals/library.pdf
pins: CD (in), CI (in), CK (in), CO (out), CON (in), D0 (in), D1 (in), D2 (in), D3 (in), D4 (in), D5 (in), D6 (in), D7 (in), Q0 (out), Q1 (out), Q2 (out), Q3 (out), Q4 (out), Q5 (out), Q6 (out), Q7 (out), SD (in), SP (in)

## LB8P3IX
designator U?
8 Bit Positive Edge Triggered Loadable Bidirectional Counter with Positive Clock Enable and Positive Level Synchronous Clear (Clear overrides Enable); FPGAVendor: Lattice; Published: 4-May-2007; Publisher: Altium Limited; HelpURL: http://www.latticesemi.com/lit/docs/manuals/library.pdf
pins: CD (in), CI (in), CK (in), CO (out), CON (in), D0 (in), D1 (in), D2 (in), D3 (in), D4 (in), D5 (in), D6 (in), D7 (in), Q0 (out), Q1 (out), Q2 (out), Q3 (out), Q4 (out), Q5 (out), Q6 (out), Q7 (out), SD (in), SP (in)

## LB8P3JX
designator U?
8 Bit Positive Edge Triggered Loadable Bidirectional Counter with Positive Clock Enable and Positive Level Synchronous Preset (Preset overrides Enable); FPGAVendor: Lattice; Published: 4-May-2007; Publisher: Altium Limited; HelpURL: http://www.latticesemi.com/lit/docs/manuals/library.pdf
pins: CI (in), CK (in), CO (out), CON (in), D0 (in), D1 (in), D2 (in), D3 (in), D4 (in), D5 (in), D6 (in), D7 (in), PD (in), Q0 (out), Q1 (out), Q2 (out), Q3 (out), Q4 (out), Q5 (out), Q6 (out), Q7 (out), SD (in), SP (in)

## LD2P3AX
designator U?
2 Bit Positive Edge Triggered Loadable Down Counter with Positive Clock Enable, GSR Used for Clear; FPGAVendor: Lattice; Published: 4-May-2007; Publisher: Altium Limited; HelpURL: http://www.latticesemi.com/lit/docs/manuals/library.pdf
pins: CI (in), CK (in), CO (out), D0 (in), D1 (in), Q0 (out), Q1 (out), SD (in), SP (in)

## LD2P3AY
designator U?
2 Bit Positive Edge Triggered Loadable Down Counter with Positive Clock Enable, GSR Used for Preset; FPGAVendor: Lattice; Published: 4-May-2007; Publisher: Altium Limited; HelpURL: http://www.latticesemi.com/lit/docs/manuals/library.pdf
pins: CI (in), CK (in), CO (out), D0 (in), D1 (in), Q0 (out), Q1 (out), SD (in), SP (in)

## LD2P3BX
designator U?
2 Bit Positive Edge Triggered Loadable Down Counter with Positive Clock Enable and Positive Level Asynchronous Preset; FPGAVendor: Lattice; Published: 4-May-2007; Publisher: Altium Limited; HelpURL: http://www.latticesemi.com/lit/docs/manuals/library.pdf
pins: CI (in), CK (in), CO (out), D0 (in), D1 (in), PD (in), Q0 (out), Q1 (out), SD (in), SP (in)

## LD2P3DX
designator U?
2 Bit Positive Edge Triggered Loadable Down Counter with Positive Clock Enable and Positive Level Asynchronous Clear; FPGAVendor: Lattice; Published: 4-May-2007; Publisher: Altium Limited; HelpURL: http://www.latticesemi.com/lit/docs/manuals/library.pdf
pins: CD (in), CI (in), CK (in), CO (out), D0 (in), D1 (in), Q0 (out), Q1 (out), SD (in), SP (in)

## LD2P3IX
designator U?
2 Bit Positive Edge Triggered Loadable Down Counter with Positive Clock Enable and Positive Level Synchronous Clear (Clear overrides Enable); FPGAVendor: Lattice; Published: 4-May-2007; Publisher: Altium Limited; HelpURL: http://www.latticesemi.com/lit/docs/manuals/library.pdf
pins: CD (in), CI (in), CK (in), CO (out), D0 (in), D1 (in), Q0 (out), Q1 (out), SD (in), SP (in)

## LD2P3JX
designator U?
2 Bit Positive Edge Triggered Loadable Down Counter with Positive Clock Enable and Positive Level Synchronous Preset (Preset overrides Enable); FPGAVendor: Lattice; Published: 4-May-2007; Publisher: Altium Limited; HelpURL: http://www.latticesemi.com/lit/docs/manuals/library.pdf
pins: CI (in), CK (in), CO (out), D0 (in), D1 (in), PD (in), Q0 (out), Q1 (out), SD (in), SP (in)

## LD4P3AX
designator U?
4 Bit Positive Edge Triggered Loadable Down Counter with Positive Clock Enable, GSR Used for Clear; FPGAVendor: Lattice; Published: 4-May-2007; Publisher: Altium Limited; HelpURL: http://www.latticesemi.com/lit/docs/manuals/library.pdf
pins: CI (in), CK (in), CO (out), D0 (in), D1 (in), D2 (in), D3 (in), Q0 (out), Q1 (out), Q2 (out), Q3 (out), SD (in), SP (in)

## LD4P3AY
designator U?
4 Bit Positive Edge Triggered Loadable Down Counter with Positive Clock Enable, GSR Used for Preset; FPGAVendor: Lattice; Published: 4-May-2007; Publisher: Altium Limited; HelpURL: http://www.latticesemi.com/lit/docs/manuals/library.pdf
pins: CI (in), CK (in), CO (out), D0 (in), D1 (in), D2 (in), D3 (in), Q0 (out), Q1 (out), Q2 (out), Q3 (out), SD (in), SP (in)

## LD4P3BX
designator U?
4 Bit Positive Edge Triggered Loadable Down Counter with Positive Clock Enable and Positive Level Asynchronous Preset; FPGAVendor: Lattice; Published: 4-May-2007; Publisher: Altium Limited; HelpURL: http://www.latticesemi.com/lit/docs/manuals/library.pdf
pins: CI (in), CK (in), CO (out), D0 (in), D1 (in), D2 (in), D3 (in), PD (in), Q0 (out), Q1 (out), Q2 (out), Q3 (out), SD (in), SP (in)

## LD4P3DX
designator U?
4 Bit Positive Edge Triggered Loadable Down Counter with Positive Clock Enable and Positive Level Asynchronous Clear; FPGAVendor: Lattice; Published: 4-May-2007; Publisher: Altium Limited; HelpURL: http://www.latticesemi.com/lit/docs/manuals/library.pdf
pins: CD (in), CI (in), CK (in), CO (out), D0 (in), D1 (in), D2 (in), D3 (in), Q0 (out), Q1 (out), Q2 (out), Q3 (out), SD (in), SP (in)

## LD4P3IX
designator U?
4 Bit Positive Edge Triggered Loadable Down Counter with Positive Clock Enable and Positive Level Synchronous Clear (Clear overrides Enable); FPGAVendor: Lattice; Published: 4-May-2007; Publisher: Altium Limited; HelpURL: http://www.latticesemi.com/lit/docs/manuals/library.pdf
pins: CD (in), CI (in), CK (in), CO (out), D0 (in), D1 (in), D2 (in), D3 (in), Q0 (out), Q1 (out), Q2 (out), Q3 (out), SD (in), SP (in)

## LD4P3JX
designator U?
4 Bit Positive Edge Triggered Loadable Down Counter with Positive Clock Enable and Positive Level Synchronous Preset (Preset overrides Enable); FPGAVendor: Lattice; Published: 4-May-2007; Publisher: Altium Limited; HelpURL: http://www.latticesemi.com/lit/docs/manuals/library.pdf
pins: CI (in), CK (in), CO (out), D0 (in), D1 (in), D2 (in), D3 (in), PD (in), Q0 (out), Q1 (out), Q2 (out), Q3 (out), SD (in), SP (in)

## LD8P3BX
designator U?
8 Bit Positive Edge Triggered Loadable Down-Counter with Positive Clock Enable and Positive Level Asynchronous Preset; FPGAVendor: Lattice; Published: 4-May-2007; Publisher: Altium Limited; HelpURL: http://www.latticesemi.com/lit/docs/manuals/library.pdf
pins: CI (in), CK (in), CO (out), D0 (in), D1 (in), D2 (in), D3 (in), D4 (in), D5 (in), D6 (in), D7 (in), PD (in), Q0 (out), Q1 (out), Q2 (out), Q3 (out), Q4 (out), Q5 (out), Q6 (out), Q7 (out), SD (in), SP (in)

## LD8P3DX
designator U?
8 Bit Positive Edge Triggered Loadable Down-Counter with Positive Clock Enable and Positive Level Asynchronous Clear; FPGAVendor: Lattice; Published: 4-May-2007; Publisher: Altium Limited; HelpURL: http://www.latticesemi.com/lit/docs/manuals/library.pdf
pins: CD (in), CI (in), CK (in), CO (out), D0 (in), D1 (in), D2 (in), D3 (in), D4 (in), D5 (in), D6 (in), D7 (in), Q0 (out), Q1 (out), Q2 (out), Q3 (out), Q4 (out), Q5 (out), Q6 (out), Q7 (out), SD (in), SP (in)

## LD8P3IX
designator U?
8 Bit Positive Edge Triggered Loadable Down-Counter with Positive Clock Enable and Positive Level Synchronous Clear (Clear overrides Enable); FPGAVendor: Lattice; Published: 4-May-2007; Publisher: Altium Limited; HelpURL: http://www.latticesemi.com/lit/docs/manuals/library.pdf
pins: CD (in), CI (in), CK (in), CO (out), D0 (in), D1 (in), D2 (in), D3 (in), D4 (in), D5 (in), D6 (in), D7 (in), Q0 (out), Q1 (out), Q2 (out), Q3 (out), Q4 (out), Q5 (out), Q6 (out), Q7 (out), SD (in), SP (in)

## LD8P3JX
designator U?
8 Bit Positive Edge Triggered Loadable Down-Counter with Positive Clock Enable and Positive Level Synchronous Preset (Preset overrides Enable); FPGAVendor: Lattice; Published: 4-May-2007; Publisher: Altium Limited; HelpURL: http://www.latticesemi.com/lit/docs/manuals/library.pdf
pins: CI (in), CK (in), CO (out), D0 (in), D1 (in), D2 (in), D3 (in), D4 (in), D5 (in), D6 (in), D7 (in), PD (in), Q0 (out), Q1 (out), Q2 (out), Q3 (out), Q4 (out), Q5 (out), Q6 (out), Q7 (out), SD (in), SP (in)

## LU2P3AX
designator U?
2 Bit Positive Edge Triggered Loadable Up Counter with Positive Clock Enable, GSR Used for Clear; FPGAVendor: Lattice; Published: 4-May-2007; Publisher: Altium Limited; HelpURL: http://www.latticesemi.com/lit/docs/manuals/library.pdf
pins: CI (in), CK (in), CO (out), D0 (in), D1 (in), Q0 (out), Q1 (out), SD (in), SP (in)

## LU2P3AY
designator U?
2 Bit Positive Edge Triggered Loadable Up Counter with Positive Clock Enable, GSR Used for Preset; FPGAVendor: Lattice; Published: 4-May-2007; Publisher: Altium Limited; HelpURL: http://www.latticesemi.com/lit/docs/manuals/library.pdf
pins: CI (in), CK (in), CO (out), D0 (in), D1 (in), Q0 (out), Q1 (out), SD (in), SP (in)

## LU2P3BX
designator U?
2 Bit Positive Edge Triggered Loadable Up Counter with Positive Clock Enable and Positive Level Asynchronous Preset; FPGAVendor: Lattice; Published: 4-May-2007; Publisher: Altium Limited; HelpURL: http://www.latticesemi.com/lit/docs/manuals/library.pdf
pins: CI (in), CK (in), CO (out), D0 (in), D1 (in), PD (in), Q0 (out), Q1 (out), SD (in), SP (in)

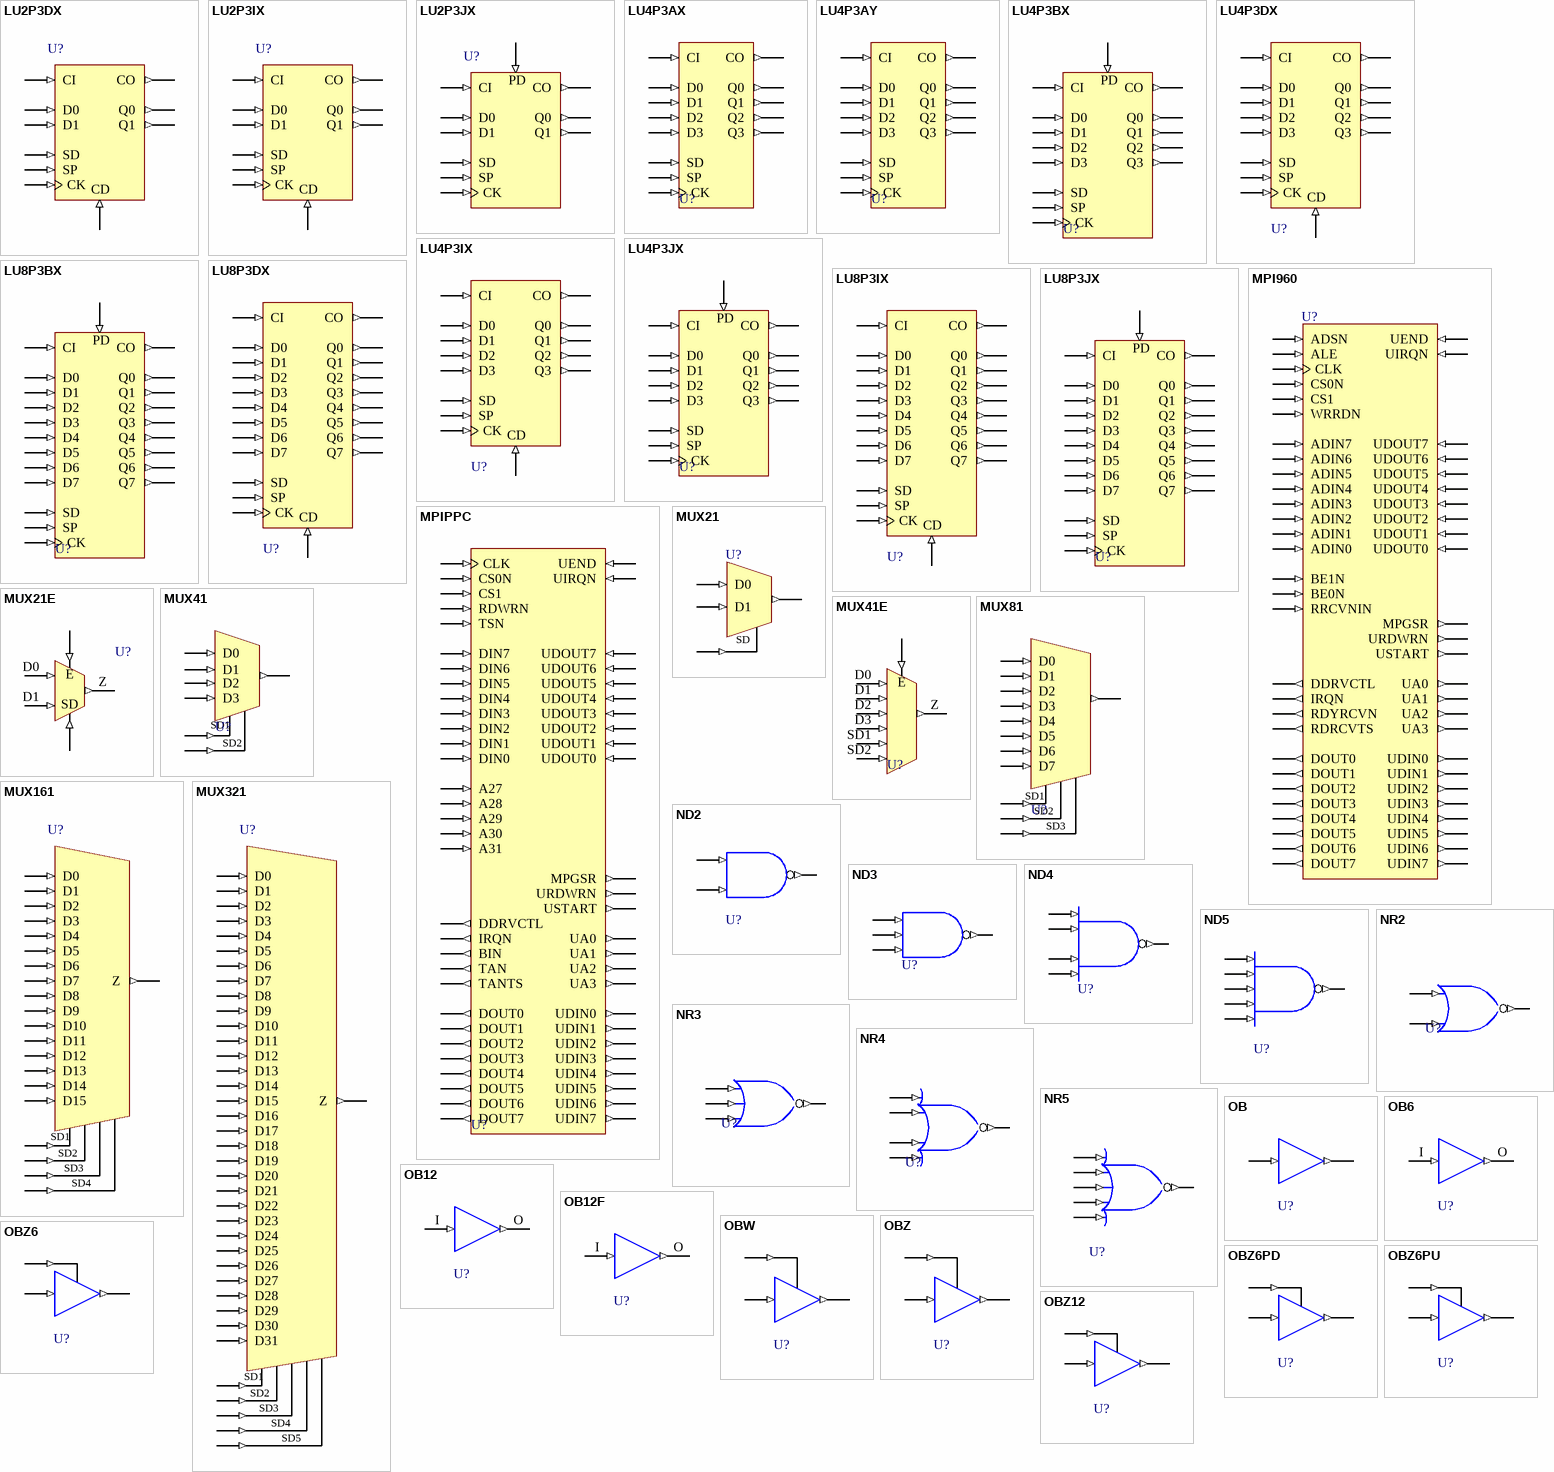
[diagram p7: symbols LU2P3DX to OBZ12]

## LU2P3DX
designator U?
2 Bit Positive Edge Triggered Loadable Up Counter with Positive Clock Enable and Positive Level Asynchronous Clear; FPGAVendor: Lattice; Published: 4-May-2007; Publisher: Altium Limited; HelpURL: http://www.latticesemi.com/lit/docs/manuals/library.pdf
pins: CD (in), CI (in), CK (in), CO (out), D0 (in), D1 (in), Q0 (out), Q1 (out), SD (in), SP (in)

## LU2P3IX
designator U?
2 Bit Positive Edge Triggered Loadable Up Counter with Positive Clock Enable and Positive Level Synchronous Clear (Clear overrides Enable); FPGAVendor: Lattice; Published: 4-May-2007; Publisher: Altium Limited; HelpURL: http://www.latticesemi.com/lit/docs/manuals/library.pdf
pins: CD (in), CI (in), CK (in), CO (out), D0 (in), D1 (in), Q0 (out), Q1 (out), SD (in), SP (in)

## LU2P3JX
designator U?
2 Bit Positive Edge Triggered Loadable Up Counter with Positive Clock Enable and Positive Level Synchronous Preset (Preset overrides Enable); FPGAVendor: Lattice; Published: 4-May-2007; Publisher: Altium Limited; HelpURL: http://www.latticesemi.com/lit/docs/manuals/library.pdf
pins: CI (in), CK (in), CO (out), D0 (in), D1 (in), PD (in), Q0 (out), Q1 (out), SD (in), SP (in)

## LU4P3AX
designator U?
4 Bit Positive Edge Triggered Loadable Up Counter with Positive Clock Enable, GSR Used for Clear; FPGAVendor: Lattice; Published: 4-May-2007; Publisher: Altium Limited; HelpURL: http://www.latticesemi.com/lit/docs/manuals/library.pdf
pins: CI (in), CK (in), CO (out), D0 (in), D1 (in), D2 (in), D3 (in), Q0 (out), Q1 (out), Q2 (out), Q3 (out), SD (in), SP (in)

## LU4P3AY
designator U?
4 Bit Positive Edge Triggered Loadable Up Counter with Positive Clock Enable, GSR Used for Preset; FPGAVendor: Lattice; Published: 4-May-2007; Publisher: Altium Limited; HelpURL: http://www.latticesemi.com/lit/docs/manuals/library.pdf
pins: CI (in), CK (in), CO (out), D0 (in), D1 (in), D2 (in), D3 (in), Q0 (out), Q1 (out), Q2 (out), Q3 (out), SD (in), SP (in)

## LU4P3BX
designator U?
4 Bit Positive Edge Triggered Loadable Up Counter with Positive Clock Enable and Positive Level Asynchronous Preset; FPGAVendor: Lattice; Published: 4-May-2007; Publisher: Altium Limited; HelpURL: http://www.latticesemi.com/lit/docs/manuals/library.pdf
pins: CI (in), CK (in), CO (out), D0 (in), D1 (in), D2 (in), D3 (in), PD (in), Q0 (out), Q1 (out), Q2 (out), Q3 (out), SD (in), SP (in)

## LU4P3DX
designator U?
4 Bit Positive Edge Triggered Loadable Up Counter with Positive Clock Enable and Positive Level Asynchronous Clear; FPGAVendor: Lattice; Published: 4-May-2007; Publisher: Altium Limited; HelpURL: http://www.latticesemi.com/lit/docs/manuals/library.pdf
pins: CD (in), CI (in), CK (in), CO (out), D0 (in), D1 (in), D2 (in), D3 (in), Q0 (out), Q1 (out), Q2 (out), Q3 (out), SD (in), SP (in)

## LU4P3IX
designator U?
4 Bit Positive Edge Triggered Loadable Up Counter with Positive Clock Enable and Positive Level Synchronous Clear (Clear overrides Enable); FPGAVendor: Lattice; Published: 4-May-2007; Publisher: Altium Limited; HelpURL: http://www.latticesemi.com/lit/docs/manuals/library.pdf
pins: CD (in), CI (in), CK (in), CO (out), D0 (in), D1 (in), D2 (in), D3 (in), Q0 (out), Q1 (out), Q2 (out), Q3 (out), SD (in), SP (in)

## LU4P3JX
designator U?
4 Bit Positive Edge Triggered Loadable Up Counter with Positive Clock Enable and Positive Level Synchronous Preset (Preset overrides Enable); FPGAVendor: Lattice; Published: 4-May-2007; Publisher: Altium Limited; HelpURL: http://www.latticesemi.com/lit/docs/manuals/library.pdf
pins: CI (in), CK (in), CO (out), D0 (in), D1 (in), D2 (in), D3 (in), PD (in), Q0 (out), Q1 (out), Q2 (out), Q3 (out), SD (in), SP (in)

## LU8P3BX
designator U?
8 Bit Positive Edge Triggered Loadable Up-Counter with Positive Clock Enable and Positive Level Asynchronous Preset; FPGAVendor: Lattice; Published: 4-May-2007; Publisher: Altium Limited; HelpURL: http://www.latticesemi.com/lit/docs/manuals/library.pdf
pins: CI (in), CK (in), CO (out), D0 (in), D1 (in), D2 (in), D3 (in), D4 (in), D5 (in), D6 (in), D7 (in), PD (in), Q0 (out), Q1 (out), Q2 (out), Q3 (out), Q4 (out), Q5 (out), Q6 (out), Q7 (out), SD (in), SP (in)

## LU8P3DX
designator U?
8 Bit Positive Edge Triggered Loadable Up-Counter with Positive Clock Enable and Positive Level Asynchronous Clear; FPGAVendor: Lattice; Published: 4-May-2007; Publisher: Altium Limited; HelpURL: http://www.latticesemi.com/lit/docs/manuals/library.pdf
pins: CD (in), CI (in), CK (in), CO (out), D0 (in), D1 (in), D2 (in), D3 (in), D4 (in), D5 (in), D6 (in), D7 (in), Q0 (out), Q1 (out), Q2 (out), Q3 (out), Q4 (out), Q5 (out), Q6 (out), Q7 (out), SD (in), SP (in)

## LU8P3IX
designator U?
8 Bit Positive Edge Triggered Loadable Up-Counter with Positive Clock Enable and Positive Level Synchronous Clear (Clear overrides Enable); FPGAVendor: Lattice; Published: 4-May-2007; Publisher: Altium Limited; HelpURL: http://www.latticesemi.com/lit/docs/manuals/library.pdf
pins: CD (in), CI (in), CK (in), CO (out), D0 (in), D1 (in), D2 (in), D3 (in), D4 (in), D5 (in), D6 (in), D7 (in), Q0 (out), Q1 (out), Q2 (out), Q3 (out), Q4 (out), Q5 (out), Q6 (out), Q7 (out), SD (in), SP (in)

## LU8P3JX
designator U?
8 Bit Positive Edge Triggered Loadable Up-Counter with Positive Clock Enable and Positive Level Synchronous Preset (Preset overrides Enable); FPGAVendor: Lattice; Published: 4-May-2007; Publisher: Altium Limited; HelpURL: http://www.latticesemi.com/lit/docs/manuals/library.pdf
pins: CI (in), CK (in), CO (out), D0 (in), D1 (in), D2 (in), D3 (in), D4 (in), D5 (in), D6 (in), D7 (in), PD (in), Q0 (out), Q1 (out), Q2 (out), Q3 (out), Q4 (out), Q5 (out), Q6 (out), Q7 (out), SD (in), SP (in)

## MPI960
designator U?
8-Bit Interface to the Intel i960 Microprocessor; FPGAVendor: Lattice; Published: 4-May-2007; Publisher: Altium Limited; HelpURL: http://www.latticesemi.com/lit/docs/manuals/library.pdf
pins: ADIN0 (in), ADIN1 (in), ADIN2 (in), ADIN3 (in), ADIN4 (in), ADIN5 (in), ADIN6 (in), ADIN7 (in), ADSN (in), ALE (in), BE0N (in), BE1N (in), CLK (in), CS0N (in), CS1 (in), DDRVCTL (out), DOUT0 (out), DOUT1 (out), DOUT2 (out), DOUT3 (out), DOUT4 (out), DOUT5 (out), DOUT6 (out), DOUT7 (out), IRQN (out), MPGSR (out), RDRCVTS (out), RDYRCVN (out), RRCVNIN (in), UA0 (out), UA1 (out), UA2 (out), UA3 (out), UDIN0 (out), UDIN1 (out), UDIN2 (out), UDIN3 (out), UDIN4 (out), UDIN5 (out), UDIN6 (out), UDIN7 (out), UDOUT0 (in), UDOUT1 (in), UDOUT2 (in), UDOUT3 (in), UDOUT4 (in), UDOUT5 (in), UDOUT6 (in), UDOUT7 (in), UEND (in), UIRQN (in), URDWRN (out), USTART (out), WRRDN (in)

## MPIPPC
designator U?
8-bit Interface to the PowerPC Microprocessor; FPGAVendor: Lattice; Published: 4-May-2007; Publisher: Altium Limited; HelpURL: http://www.latticesemi.com/lit/docs/manuals/library.pdf
pins: A27 (in), A28 (in), A29 (in), A30 (in), A31 (in), BIN (out), CLK (in), CS0N (in), CS1 (in), DDRVCTL (out), DIN0 (in), DIN1 (in), DIN2 (in), DIN3 (in), DIN4 (in), DIN5 (in), DIN6 (in), DIN7 (in), DOUT0 (out), DOUT1 (out), DOUT2 (out), DOUT3 (out), DOUT4 (out), DOUT5 (out), DOUT6 (out), DOUT7 (out), IRQN (out), MPGSR (out), RDWRN (in), TAN (out), TANTS (out), TSN (in), UA0 (out), UA1 (out), UA2 (out), UA3 (out), UDIN0 (out), UDIN1 (out), UDIN2 (out), UDIN3 (out), UDIN4 (out), UDIN5 (out), UDIN6 (out), UDIN7 (out), UDOUT0 (in), UDOUT1 (in), UDOUT2 (in), UDOUT3 (in), UDOUT4 (in), UDOUT5 (in), UDOUT6 (in), UDOUT7 (in), UEND (in), UIRQN (in), URDWRN (out), USTART (out)

## MUX21
designator U?
2 to 1 Mux; FPGAVendor: Lattice; Published: 4-May-2007; Publisher: Altium Limited; HelpURL: http://www.latticesemi.com/lit/docs/manuals/library.pdf
pins: D0 (in), D1 (in), SD (in), Z (out)

## MUX21E
designator U?
2 to 1 Mux with Enable; FPGAVendor: Lattice; Published: 4-May-2007; Publisher: Altium Limited; HelpURL: http://www.latticesemi.com/lit/docs/manuals/library.pdf
pins: D0 (in), D1 (in), E (in), SD (in), Z (out)

## MUX41
designator U?
4 to 1 Mux; FPGAVendor: Lattice; Published: 4-May-2007; Publisher: Altium Limited; HelpURL: http://www.latticesemi.com/lit/docs/manuals/library.pdf
pins: D0 (in), D1 (in), D2 (in), D3 (in), SD1 (in), SD2 (in), Z (out)

## MUX41E
designator U?
4 to 1 Mux with Enable; FPGAVendor: Lattice; Published: 4-May-2007; Publisher: Altium Limited; HelpURL: http://www.latticesemi.com/lit/docs/manuals/library.pdf
pins: D0 (in), D1 (in), D2 (in), D3 (in), E (in), SD1 (in), SD2 (in), Z (out)

## MUX81
designator U?
8 to 1 Mux; FPGAVendor: Lattice; Published: 4-May-2007; Publisher: Altium Limited; HelpURL: http://www.latticesemi.com/lit/docs/manuals/library.pdf
pins: D0 (in), D1 (in), D2 (in), D3 (in), D4 (in), D5 (in), D6 (in), D7 (in), SD1 (in), SD2 (in), SD3 (in), Z (out)

## MUX161
designator U?
16 to 1 Mux; FPGAVendor: Lattice; Published: 4-May-2007; Publisher: Altium Limited; HelpURL: http://www.latticesemi.com/lit/docs/manuals/library.pdf
pins: D0 (in), D1 (in), D2 (in), D3 (in), D4 (in), D5 (in), D6 (in), D7 (in), D8 (in), D9 (in), D10 (in), D11 (in), D12 (in), D13 (in), D14 (in), D15 (in), SD1 (in), SD2 (in), SD3 (in), SD4 (in), Z (out)

## MUX321
designator U?
32 to 1 Mux; FPGAVendor: Lattice; Published: 4-May-2007; Publisher: Altium Limited; HelpURL: http://www.latticesemi.com/lit/docs/manuals/library.pdf
pins: D0 (in), D1 (in), D2 (in), D3 (in), D4 (in), D5 (in), D6 (in), D7 (in), D8 (in), D9 (in), D10 (in), D11 (in), D12 (in), D13 (in), D14 (in), D15 (in), D16 (in), D17 (in), D18 (in), D19 (in), D20 (in), D21 (in), D22 (in), D23 (in), D24 (in), D25 (in), D26 (in), D27 (in), D28 (in), D29 (in), D30 (in), D31 (in), SD1 (in), SD2 (in), SD3 (in), SD4 (in), SD5 (in), Z (out)

## ND2
designator U?
2 Input NAND Gate; FPGAVendor: Lattice; Published: 4-May-2007; Publisher: Altium Limited; HelpURL: http://www.latticesemi.com/lit/docs/manuals/library.pdf
pins: A (in), B (in), Z (out)

## ND3
designator U?
3 Input NAND Gate; FPGAVendor: Lattice; Published: 4-May-2007; Publisher: Altium Limited; HelpURL: http://www.latticesemi.com/lit/docs/manuals/library.pdf
pins: A (in), B (in), C (in), Z (out)

## ND4
designator U?
4 Input NAND Gate; FPGAVendor: Lattice; Published: 4-May-2007; Publisher: Altium Limited; HelpURL: http://www.latticesemi.com/lit/docs/manuals/library.pdf
pins: A (in), B (in), C (in), D (in), Z (out)

## ND5
designator U?
5 Input NAND Gate; FPGAVendor: Lattice; Published: 4-May-2007; Publisher: Altium Limited; HelpURL: http://www.latticesemi.com/lit/docs/manuals/library.pdf
pins: A (in), B (in), C (in), D (in), E (in), Z (out)

## NR2
designator U?
2 Input NOR Gate; FPGAVendor: Lattice; Published: 4-May-2007; Publisher: Altium Limited; HelpURL: http://www.latticesemi.com/lit/docs/manuals/library.pdf
pins: A (in), B (in), Z (out)